# EAGLE library part SN65HVD3082EDR (library Labops_Lib_AH)
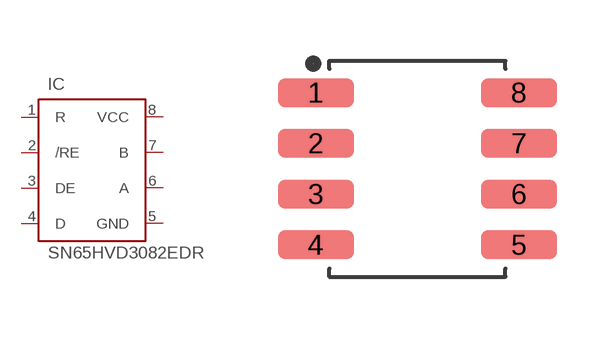
[diagram p71: symbol with the pads of SOIC8; footprint SOIC8]

Designator prefix IC

## SN65HVD3082EDR (DESCRIPTION: RS485 Transciever, 200Kbps, SOIC-8 , ALT: TP8485E-SR (3Peak); LIB_STATUS: Prototype; MFN: SN65HVD3082EDR; MFR: TI,3Peak; OUR_STOCK: 10; PART_VALUE: RS485 Driver; PRICE-1: 0.30; SUPPLIER-1: LCSC)  [SOIC8]
1  R
2  /RE
3  DE
4  D
5  GND
6  A
7  B
8  VCC

## Footprint SOIC8 (pad centres in mm)
smd 1.9 x 0.72: 1 -2.54,1.905; 2 -2.54,0.635; 3 -2.54,-0.635; 4 -2.54,-1.905; 5 2.54,-1.905; 6 2.54,-0.635; 7 2.54,0.635; 8 2.54,1.905